# Altium schematic symbol library 150060BS75000.SchLib: 1 symbol
Pins are listed as number, name and electrical type; pins without a type are passive.

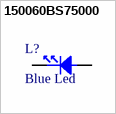
[diagram p0: symbol 150060BS75000]

## 150060BS75000
designator L?, comment Blue Led
LED BLUE CLEAR 0603 SMD; Manufacturer: Wurth Elektronik; Manufacturer Part Number: 150060BS75000; Manufacturer Lifecycle Status: ACTIVE; Dominant Wavelength: 470nm; Forward Current: 100mA; Forward Voltage: 3.2V; Lens Style: Clear, Rectangular; Luminous Intensity: 145mcd; Max Junction Temperature (Tj): 95°C; Max Reverse Voltage (DC): 5V; Peak Wavelength: 465nm; Power Dissipation: 105mW; Test Current: 20mA; Viewing Angle: 140°; YEOL: 1 = Estimated lifetime > 10 years; Supplier: DigiKey; Supplier Part Number: 732-4966-6-ND; RoHS: Compliant; Category: LEDs; Stock: 157758; Pricing: 1=0.16, 50=0.155, 100=0.1346 (USD); Case/Package: 0603; Case Code (Imperial): 0603; Case Code (Metric): 1608; Color: Blue; Height: 700µm; Length: 1.6mm; Lifecycle Status: Production; Max Operating Temperature: 85°C; Min Operating Temperature: -40°C; Mounting Technology: Surface Mount; Packaging: Tape and Reel; REACH SVHC: Unknown; Reverse Voltage: 5V; Wavelength: 470nm; Width: 800µm; ComponentLink1URL: https://datasheet.octopart.com:443/150060BS75000-W%C3%BCrth-Elektronik-datasheet-140583947.pdf?src-supplier=Newark; ComponentLink1Description: https://datasheet.octopart.com:443/150060BS75000-W%C3%BCrth-Elektronik-datasheet-140583947.pdf?src-supplier=Newark; ComponentLink2URL: https://datasheet.octopart.com:443/150060BS75000-W%C3%BCrth-Elektronik-datasheet-41196436.pdf?src-supplier=Newark; ComponentLink2Description: https://datasheet.octopart.com:443/150060BS75000-W%C3%BCrth-Elektronik-datasheet-41196436.pdf?src-supplier=Newark; ComponentLink3URL: https://datasheet.octopart.com:443/150060BS75000-W%C3%BCrth-Elektronik-datasheet-15983786.pdf?src-supplier=Upverter; ComponentLink3Description: https://datasheet.octopart.com:443/150060BS75000-W%C3%BCrth-Elektronik-datasheet-15983786.pdf?src-supplier=Upverter
footprint WL-SMCW_0603-B
footprint WL-SMCW_0603-B
pins: A, C